# Altium footprint library T_Echo_lite.PcbLib: 21 footprints (part 2 of 2)
Each footprint in its own frame and in the unit in brackets; x right, y up, seen from the top. Pads: shape width x height; smd on the part's side, far side on the other; paste and mask are expansions set on the pad; w line width, h text height; cw(c..) or ccw(c..) is an arc to the next point about the centre after c.
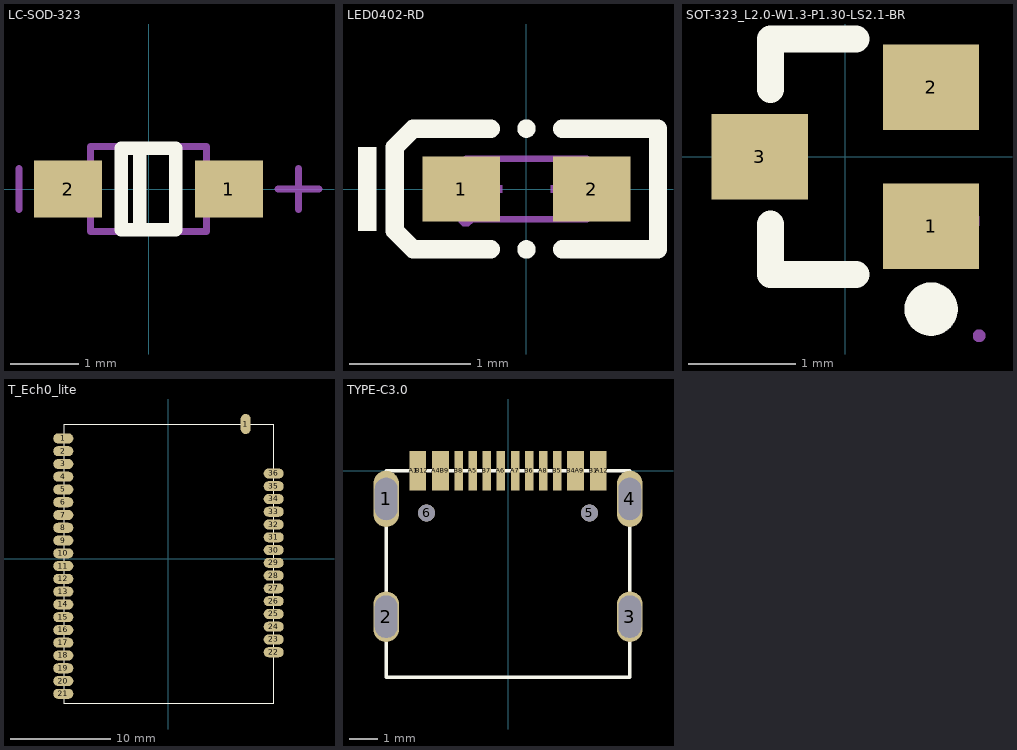
[diagram p1: the footprints below, top view; thin cyan lines are the x and y axes]

## LC-SOD-323 [mm]
pads (2):
  rect 1x0.83 smd: 1(1.18,0) 2(-1.18,0)
Top Overlay:
  lines w0.2: -0.13,-0.6 -0.13,0.6 ; -0.4,-0.6 0.4,-0.6 0.4,0.6 -0.4,0.6 -0.4,-0.6
Mechanical 13:
  lines w0.1: -0.85,-0.625 0.85,-0.625 0.85,0.625 -0.85,0.625 -0.85,-0.625
Mechanical 15:
  lines w0.1: -1.9,-0.3 -1.9,0.3 ; 1.9,0 2.5,0 ; 2.2,-0.3 2.2,0.3
3D body "SOD323.STEP": height 1.1, standoff 0, extent -1.35,-0.625 1.35,0.625

## LED0402-RD [mm]
pads (2):
  rect 0.636x0.54 smd paste-100 mask+0.051: 1(-0.538,0) 2(0.538,0)
Top Overlay:
  circle w0.076: c0,-0.499 r0.038
  circle w0.076: c0,0.499 r0.038
  region: -1.237,-0.346 -1.237,0.346 -1.39,0.346 -1.39,-0.346
  lines w0.152: -0.296,-0.499 -0.933,-0.499 -1.085,-0.346 -1.085,0.346 -0.933,0.499 -0.296,0.499 ; 0.296,-0.499 1.085,-0.499 1.085,0.499 0.296,0.499
Top Paste:
  region: 0.198,-0.23 0.198,0.23 0.238,0.27 0.816,0.27 0.856,0.23 0.856,-0.23 0.816,-0.27 0.238,-0.27
  region: -0.198,-0.23 -0.198,0.23 -0.238,0.27 -0.816,0.27 -0.856,0.23 -0.856,-0.23 -0.816,-0.27 -0.238,-0.27
Mechanical 6:
  region: -0.44,-0.03 -0.44,0.03 -0.2,0.03 -0.2,-0.03
  region: 0.44,-0.03 0.44,0.03 0.2,0.03 0.2,-0.03
  region: 0.35,-0.2 0.35,0.2 0.29,0.2 0.29,-0.2
Mechanical 15:
  region: -0.44,-0.25 -0.44,-0.225 -0.475,-0.191 -0.524,-0.191 -0.559,-0.225 -0.56,-0.25 -0.559,-0.274 -0.524,-0.309 -0.475,-0.309 -0.44,-0.274 -0.44,-0.25
  region: -0.5,-0.25 -0.5,0.25 -0.3,0.25 -0.3,-0.25
  region: 0.5,-0.25 0.5,0.25 0.3,0.25 0.3,-0.25
  lines w0.051: -0.5,-0.25 -0.5,0.25 0.5,0.25 0.5,-0.25 -0.5,-0.25

## SOT-323_L2.0-W1.3-P1.30-LS2.1-BR [mm]
pads (3):
  rect 0.9x0.8 smd: 1(0.8,-0.65) 2(0.8,0.65) 3(-0.8,0)
Top Overlay:
  lines w0.249: 0.8,-1.3 ccw(c0.801,-1.424) 0.803,-1.3
  lines w0.254: -0.7,-0.631 -0.7,-1.1 0.1,-1.1 ; -0.7,0.631 -0.7,1.1 0.1,1.1
Mechanical 5:
  pour cut-out: 0.64,-0.85 0.64,-0.45 0.66,-0.45 0.66,-0.85
  region: 0.65,-0.85 0.65,-0.45 1.05,-0.45 1.05,-0.85
  pour cut-out: 0.64,0.45 0.64,0.85 0.66,0.85 0.66,0.45
  region: 0.65,0.45 0.65,0.85 1.05,0.85 1.05,0.45
  pour cut-out: -0.66,-0.2 -0.66,0.2 -0.64,0.2 -0.64,-0.2
  region: -1.05,-0.2 -1.05,0.2 -0.65,0.2 -0.65,-0.2
Mechanical 6:
  circle w0.06: c1.25,-1.673 r0.03
Mechanical 15:
  circle w0.254: c1,-0.6 r0.127

## T_Ech0_lite [mm]
pads (37):
  oval 2x1 smd mask+0.05: 1(-10.462,11.987) 2(-10.462,10.717) 3(-10.462,9.447) 4(-10.462,8.177) 5(-10.462,6.907) 6(-10.462,5.637) 7(-10.462,4.367) 8(-10.462,3.097) 9(-10.462,1.827) 10(-10.462,0.557) 11(-10.462,-0.713) 12(-10.462,-1.983) 13(-10.462,-3.253) 14(-10.462,-4.523) 15(-10.462,-5.793) 16(-10.462,-7.063) 17(-10.462,-8.333) 18(-10.462,-9.603) 19(-10.462,-10.873) 20(-10.462,-12.143) 21(-10.462,-13.413) 22(10.463,-9.28) 23(10.463,-8.01) 24(10.463,-6.74) 25(10.463,-5.47) 26(10.463,-4.2) 27(10.463,-2.93) 28(10.463,-1.66) 29(10.463,-0.39) 30(10.463,0.88) 31(10.463,2.15) 32(10.463,3.42) 33(10.463,4.69) 34(10.463,5.96) 35(10.463,7.23) 36(10.463,8.5)
  oval 1x2 smd mask+0.05: 1(7.674,13.413)
Bottom Layer:
  pour cut-out: 11.565,-15.424
Top Overlay:
  lines w0.013: -10.44,-14.33 -10.44,13.405 10.457,13.405 10.457,-14.33 -10.44,-14.33

## TYPE-C3.0 [mm]
pads (22):
  oval 0.9x2 hole 0.8 slot 1.5 at 90 deg: 1(-4.32,-1) 4(4.32,-1)
  oval 0.9x1.8 hole 0.8 slot 1.5 at 90 deg: 2(-4.32,-5.18) 3(4.32,-5.18)
  round 0.6 hole 0.6 unplated: 5(2.89,-1.5) 6(-2.89,-1.5)
  rect 0.3x1.4 smd: A1(-3.35,0) A4(-2.55,0) A5(-1.25,0) A6(-0.25,0) A7(0.25,0) A8(1.25,0) A9(2.55,0) A12(3.35,0) B1(3.05,0) B4(2.25,0) B5(1.75,0) B6(0.75,0) B7(-0.75,0) B8(-1.75,0) B9(-2.25,0) B12(-3.05,0)
Top Overlay:
  lines w0.127: -4.32,-7.32 4.32,-7.32 4.32,0 -4.32,0 -4.32,-7.32